# Altium footprint library Components - 21.03.21 - 20.51.PcbLib: 3 footprints
Each footprint in its own frame and in the unit in brackets; x right, y up, seen from the top. Pads: shape width x height; smd on the part's side, far side on the other; paste and mask are expansions set on the pad; w line width, h text height; cw(c..) or ccw(c..) is an arc to the next point about the centre after c.
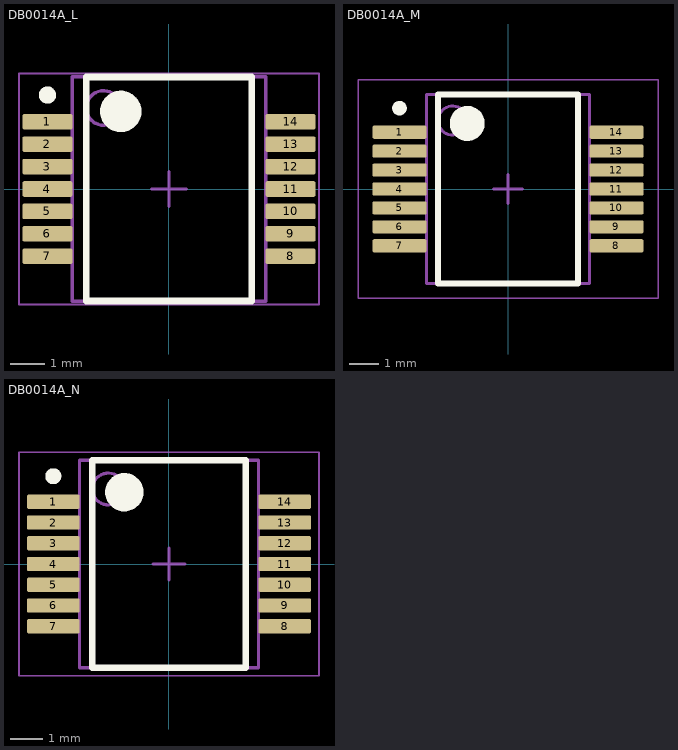
[diagram p0: the footprints below, top view; thin cyan lines are the x and y axes]

## DB0014A_L [mm] "SOP, 14-Leads, Body 5.6x6.5mm, Pitch 0.65mm, IPC High Density"
height 2
pads (14):
  rrect22% 1.45x0.45 smd: 1(-3.525,1.95) 2(-3.525,1.3) 3(-3.525,0.65) 4(-3.525,0) 5(-3.525,-0.65) 6(-3.525,-1.3) 7(-3.525,-1.95) 8(3.525,-1.95) 9(3.525,-1.3) 10(3.525,-0.65) 11(3.525,0) 12(3.525,0.65) 13(3.525,1.3) 14(3.525,1.95)
Top Overlay:
  circle w0.6: c-1.4,2.25 r0.3
  circle w0.25: c-3.525,2.725 r0.125
  lines w0.2: -2.4,-3.25 2.4,-3.25 2.4,3.25 -2.4,3.25 -2.4,-3.25
Mechanical 1:
  text ".Designator" at -1.778,-0.381 h1
Mechanical 13:
  circle w0.1: c-1.9,2.35 r0.5
  lines w0.1: -2.8,-3.25 2.8,-3.25 2.8,3.25 -2.8,3.25 -2.8,-3.25
Mechanical 15:
  lines w0.05: -4.35,-3.35 4.35,-3.35 4.35,3.35 -4.35,3.35 -4.35,-3.35
  lines w0.1: -0.5,0 0.5,0 ; 0,-0.5 0,0.5
3D body "DB0014A.stp": height 2, standoff 0, extent -3.905,-3.1 3.906,3.1

## DB0014A_M [mm] "SOP, 14-Leads, Body 5.6x6.5mm, Pitch 0.65mm, IPC Low Density"
height 2
pads (14):
  rrect22% 1.85x0.45 smd: 1(-3.725,1.95) 2(-3.725,1.3) 3(-3.725,0.65) 4(-3.725,0) 5(-3.725,-0.65) 6(-3.725,-1.3) 7(-3.725,-1.95) 8(3.725,-1.95) 9(3.725,-1.3) 10(3.725,-0.65) 11(3.725,0) 12(3.725,0.65) 13(3.725,1.3) 14(3.725,1.95)
Top Overlay:
  circle w0.25: c-3.725,2.775 r0.125
  circle w0.6: c-1.4,2.25 r0.3
  lines w0.2: -2.4,-3.25 -2.4,3.25 2.4,3.25 2.4,-3.25 -2.4,-3.25
Mechanical 1:
  text ".Designator" at -1.651,-0.381 h1
Mechanical 13:
  circle w0.1: c-1.9,2.35 r0.5
  lines w0.1: -2.8,-3.25 -2.8,3.25 2.8,3.25 2.8,-3.25 -2.8,-3.25
Mechanical 15:
  lines w0.05: -5.15,-3.75 -5.15,3.75 5.15,3.75 5.15,-3.75 -5.15,-3.75
  lines w0.1: -0.5,0 0.5,0 ; 0,-0.5 0,0.5
3D body "DB0014A.stp": height 2, standoff 0, extent -3.905,-3.1 3.906,3.1

## DB0014A_N [mm] "SOP, 14-Leads, Body 5.6x6.5mm, Pitch 0.65mm, IPC Medium Density"
height 2
pads (14):
  rrect22% 1.65x0.45 smd: 1(-3.625,1.95) 2(-3.625,1.3) 3(-3.625,0.65) 4(-3.625,0) 5(-3.625,-0.65) 6(-3.625,-1.3) 7(-3.625,-1.95) 8(3.625,-1.95) 9(3.625,-1.3) 10(3.625,-0.65) 11(3.625,0) 12(3.625,0.65) 13(3.625,1.3) 14(3.625,1.95)
Top Overlay:
  circle w0.25: c-3.625,2.75 r0.125
  circle w0.6: c-1.4,2.25 r0.3
  lines w0.2: -2.4,-3.25 -2.4,3.25 2.4,3.25 2.4,-3.25 -2.4,-3.25
Mechanical 1:
  text ".Designator" at -1.524,-0.254 h1
Mechanical 13:
  circle w0.1: c-1.9,2.35 r0.5
  lines w0.1: -2.8,-3.25 -2.8,3.25 2.8,3.25 2.8,-3.25 -2.8,-3.25
Mechanical 15:
  lines w0.05: -4.7,-3.5 -4.7,3.5 4.7,3.5 4.7,-3.5 -4.7,-3.5
  lines w0.1: -0.5,0 0.5,0 ; 0,-0.5 0,0.5
3D body "DB0014A.stp": height 2, standoff 0, extent -3.905,-3.1 3.906,3.1